# EAGLE library part MCP6282-E/SN (library stutz-components-library)
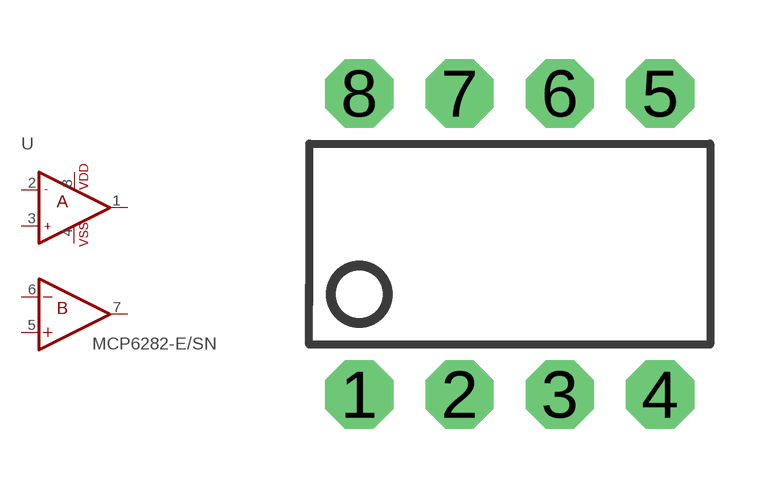
[diagram p1: symbol with the pads of PDIP-8PIN; footprint PDIP-8PIN]

Designator prefix -

## MCP6282-E/SN  [PDIP-8PIN]
1  OUTA  out
2  INA-  in
3  INA+  in
4  VSS  pwr
5  INB+  in
6  INB-  in
7  OUTB  out
8  VDD  pwr

## Footprint PDIP-8PIN (pad centres in mm)
drill 0.813 pad 1.727 octagon: 1 -3.81,-3.81; 2 -1.27,-3.81; 3 1.27,-3.81; 4 3.81,-3.81; 5 3.81,3.81; 6 1.27,3.81; 7 -1.27,3.81; 8 -3.81,3.81